# EAGLE library part 74LS00 (library 74_Logic_Series)
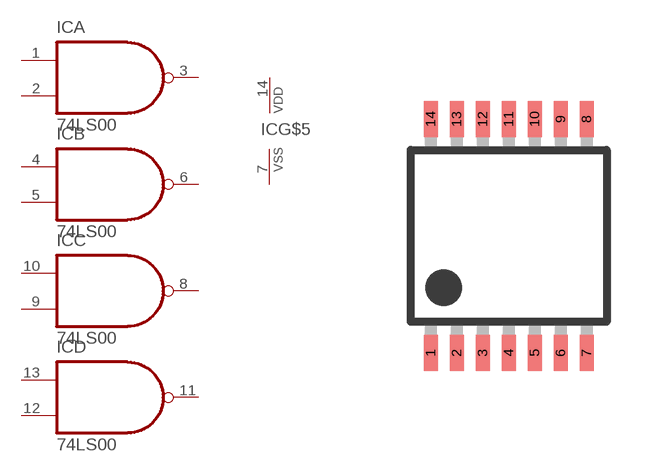
[diagram p1: symbol with the pads of TSSOP14; footprint TSSOP14]

Designator prefix IC; gates A=NAND B=NAND C=NAND D=NAND G$5=PWRN

## 74LS00  [TSSOP14]
1  A:A
2  A:B
3  A:Y  out
4  B:A
5  B:B
6  B:Y  out
7  G$5:VSS  pwr
8  C:Y  out
9  C:B
10  C:A
11  D:Y  out
12  D:B
13  D:A
14  G$5:VDD  pwr

## Footprint TSSOP14 (pad centres in mm)
plastic thin shrink small outline package; 14 leads; body width 4.4 mm SOT402-1 Source: http://www.nxp.com/documents/data_sheet/74ABT125.pdf
smd 0.35 x 0.9: 1 -1.95,-2.925; 2 -1.3,-2.925; 3 -0.65,-2.925; 4 0,-2.925; 5 0.65,-2.925; 6 1.3,-2.925; 7 1.95,-2.925; 8 1.95,2.925; 9 1.3,2.925; 10 0.65,2.925; 11 0,2.925; 12 -0.65,2.925; 13 -1.3,2.925; 14 -1.95,2.925